# Altium integrated library Microchip Microcontroller 8-Bit PIC14.IntLib: 16 symbols
Pins are listed as number, name and electrical type; pins without a type are passive.

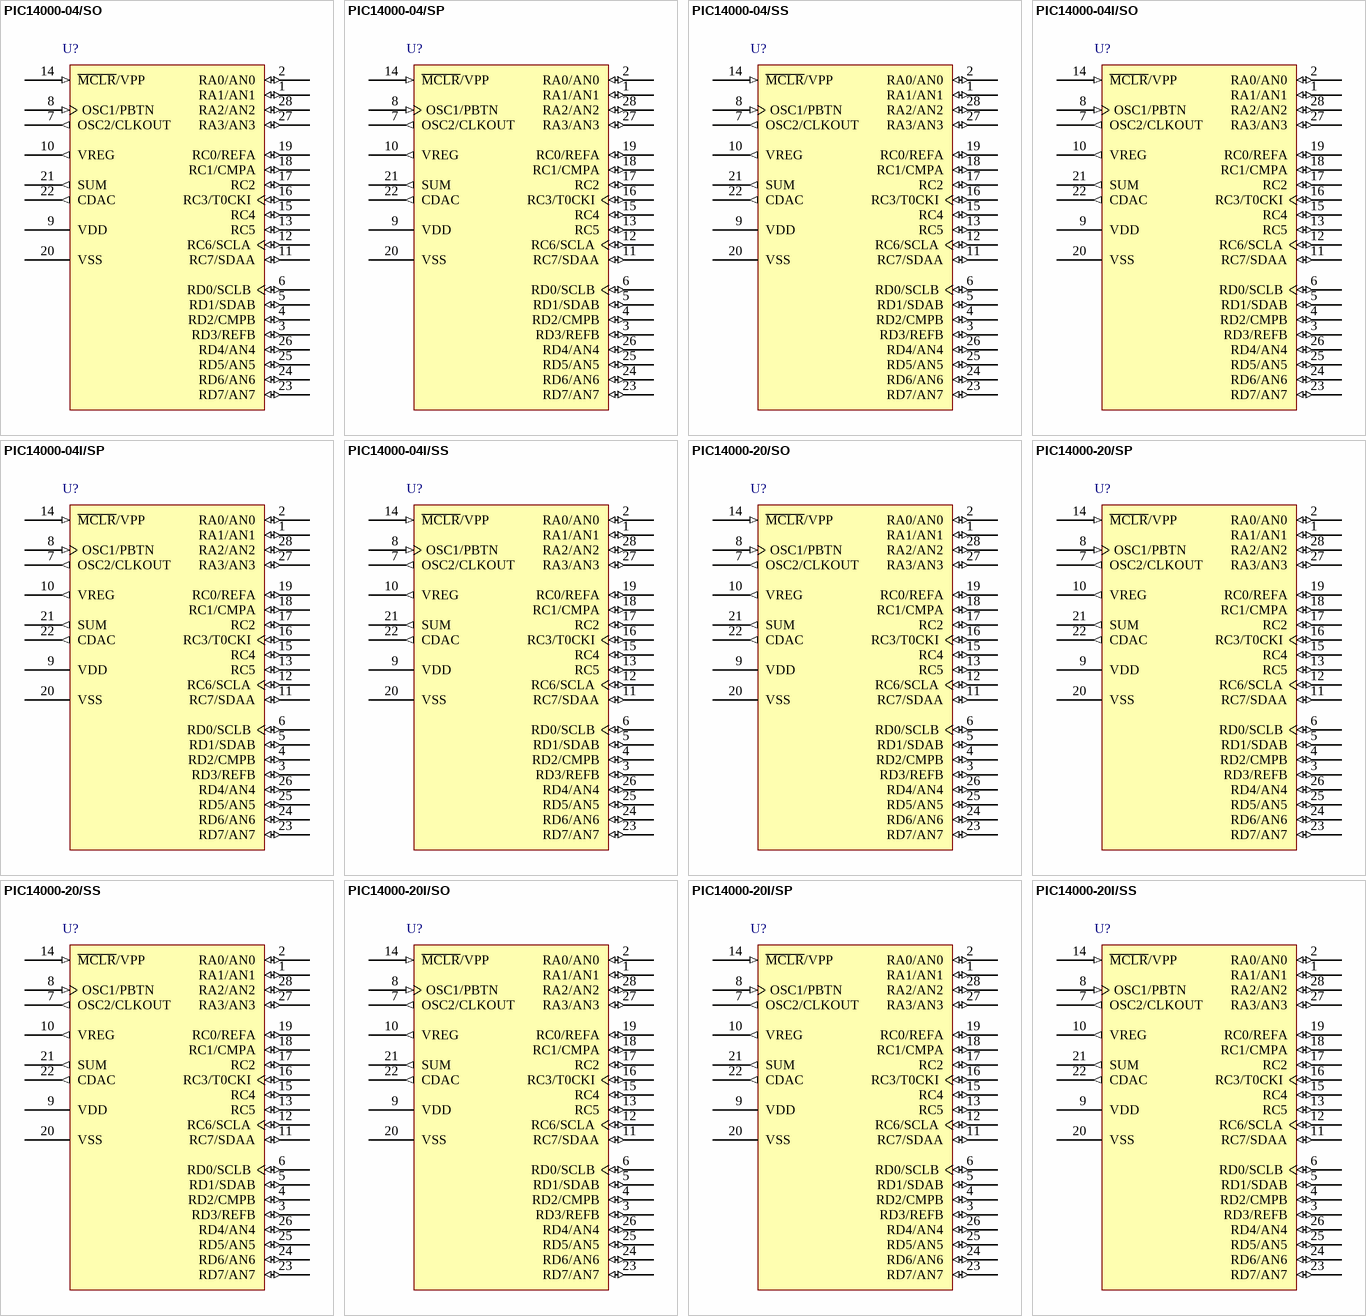
[diagram p0: symbols PIC14000-04/SO to PIC14000-20I/SS]

## PIC14000-04/SO
designator U?
Programmable OTP-Based 8-Bit Mixed Signal Microcontroller, 4 MHz, 28-Pin SOIC, Commercial Temperature; ComponentAvailability: Unknown. Contact manufacturer to determine status.; Published: 11-Oct-2004; LatestRevisionDate: 29-Jan-2009; LatestRevisionNote: Sch. layout revised. 3D Model Removed.; DatasheetVersion: revB, Feb-2003; PackageVersion: revBB, Aug-2009; PackageReference: SOIC-SO28; Publisher: Altium Limited; PackageDescription: 28-Lead Plastic Small Outline (SO) - Wide 7.50mm Body [SOIC]; Supplier 1: Digi-Key; Supplier Part Number 1: PIC14000-04/SO-ND; Code_JEDEC: MS-013; ComponentLink1Description: Datasheet; ComponentLink1URL: http://ww1.microchip.com/downloads/en/DeviceDoc/40122b.pdf; ComponentLink2Description: Packaging Specification; ComponentLink2URL: http://www.microchip.com/stellent/groups/techpub_sg/documents/packagingspec/en012702.pdf; ComponentLink3Description: Microchip.com Home; ComponentLink3URL: http://www.microchip.com/
footprint SOIC-SO28_N (SOIC, 28-Leads, Body 17.9x7.5mm, Pitch 1.27mm, IPC Medium Density)
footprint SOIC-SO28_L (SOIC, 28-Leads, Body 17.9x7.5mm, Pitch 1.27mm, IPC High Density)
footprint SOIC-SO28_M (SOIC, 28-Leads, Body 17.9x7.5mm, Pitch 1.27mm, IPC Low Density)
pins: 1 RA1/AN1 (io), 2 RA0/AN0 (io), 3 RD3/REFB (io), 4 RD2/CMPB (io), 5 RD1/SDAB (io), 6 RD0/SCLB (io), 7 OSC2/CLKOUT (out), 8 OSC1/PBTN (in), 9 VDD (power), 10 VREG (out), 11 RC7/SDAA (io), 12 RC6/SCLA (io), 13 RC5 (io), 14 ~{MCLR}/VPP (in), 15 RC4 (io), 16 RC3/T0CKI (io), 17 RC2 (io), 18 RC1/CMPA (io), 19 RC0/REFA (io), 20 VSS (power), 21 SUM (out), 22 CDAC (out), 23 RD7/AN7 (io), 24 RD6/AN6 (io), 25 RD5/AN5 (io), 26 RD4/AN4 (io), 27 RA3/AN3 (io), 28 RA2/AN2 (io)

## PIC14000-04/SP
designator U?
Programmable OTP-Based 8-Bit Mixed Signal Microcontroller, 4 MHz, 28-Pin PDIP, Commercial Temperature; ComponentAvailability: Unknown. Contact manufacturer to determine status.; Published: 11-Oct-2004; LatestRevisionDate: 29-Jan-2009; LatestRevisionNote: Sch. layout revised. 3D Model Removed.; DatasheetVersion: revB, Feb-2003; PackageVersion: revBB, Aug-2009; PackageReference: SPDIP300-SP28; Publisher: Altium Limited; PackageDescription: 28-Lead Skinny Plastic Dual In-Line (SP) - 300 mil Body [SPDIP]; Supplier 1: Digi-Key; Supplier Part Number 1: PIC14000-04/SP-ND; Supplier 2: Farnell; Supplier Part Number 2: 9759069; ComponentLink1Description: Datasheet; ComponentLink1URL: http://ww1.microchip.com/downloads/en/DeviceDoc/40122b.pdf; ComponentLink2Description: Packaging Specification; ComponentLink2URL: http://www.microchip.com/stellent/groups/techpub_sg/documents/packagingspec/en012702.pdf; ComponentLink3Description: Microchip.com Home; ComponentLink3URL: http://www.microchip.com/
footprint SPDIP300-SP28 (DIP, 28-Leads, Row Spacing 7.62mm, Pitch 2.54mm, Body 34.9x6.8mm)
pins: 1 RA1/AN1 (io), 2 RA0/AN0 (io), 3 RD3/REFB (io), 4 RD2/CMPB (io), 5 RD1/SDAB (io), 6 RD0/SCLB (io), 7 OSC2/CLKOUT (out), 8 OSC1/PBTN (in), 9 VDD (power), 10 VREG (out), 11 RC7/SDAA (io), 12 RC6/SCLA (io), 13 RC5 (io), 14 ~{MCLR}/VPP (in), 15 RC4 (io), 16 RC3/T0CKI (io), 17 RC2 (io), 18 RC1/CMPA (io), 19 RC0/REFA (io), 20 VSS (power), 21 SUM (out), 22 CDAC (out), 23 RD7/AN7 (io), 24 RD6/AN6 (io), 25 RD5/AN5 (io), 26 RD4/AN4 (io), 27 RA3/AN3 (io), 28 RA2/AN2 (io)

## PIC14000-04/SS
designator U?
Programmable OTP-Based 8-Bit Mixed Signal Microcontroller, 4 MHz, 28-Pin SSOP, Commercial Temperature; ComponentAvailability: Unknown. Contact manufacturer to determine status.; Published: 11-Oct-2004; LatestRevisionDate: 29-Jan-2009; LatestRevisionNote: Sch. layout revised. 3D Model Removed.; DatasheetVersion: revB, Feb-2003; PackageVersion: revBB, Aug-2009; PackageReference: SSOP-SS28; Publisher: Altium Limited; PackageDescription: 28-Lead Plastic Shrink Small Outline (SS) - 5.3mm Body [SSOP]; Supplier 1: Digi-Key; Supplier Part Number 1: PIC14000-04/SS-ND; Code_JEDEC: MS-150; Code_IPC: SOP65P780-28; ComponentLink1Description: Datasheet; ComponentLink1URL: http://ww1.microchip.com/downloads/en/DeviceDoc/40122b.pdf; ComponentLink2Description: Packaging Specification; ComponentLink2URL: http://www.microchip.com/stellent/groups/techpub_sg/documents/packagingspec/en012702.pdf; ComponentLink3Description: Microchip.com Home; ComponentLink3URL: http://www.microchip.com/
footprint SSOP-SS28_N (SOP, 28-Leads, Body 10.2x5.2mm, Pitch 0.65mm, IPC Medium Density)
footprint SSOP-SS28_L (SOP, 28-Leads, Body 10.2x5.2mm, Pitch 0.65mm, IPC High Density)
footprint SSOP-SS28_M (SOP, 28-Leads, Body 10.2x5.2mm, Pitch 0.65mm, IPC Low Density)
pins: 1 RA1/AN1 (io), 2 RA0/AN0 (io), 3 RD3/REFB (io), 4 RD2/CMPB (io), 5 RD1/SDAB (io), 6 RD0/SCLB (io), 7 OSC2/CLKOUT (out), 8 OSC1/PBTN (in), 9 VDD (power), 10 VREG (out), 11 RC7/SDAA (io), 12 RC6/SCLA (io), 13 RC5 (io), 14 ~{MCLR}/VPP (in), 15 RC4 (io), 16 RC3/T0CKI (io), 17 RC2 (io), 18 RC1/CMPA (io), 19 RC0/REFA (io), 20 VSS (power), 21 SUM (out), 22 CDAC (out), 23 RD7/AN7 (io), 24 RD6/AN6 (io), 25 RD5/AN5 (io), 26 RD4/AN4 (io), 27 RA3/AN3 (io), 28 RA2/AN2 (io)

## PIC14000-04I/SO
designator U?
Programmable OTP-Based 8-Bit Mixed Signal Microcontroller, 4 MHz, 28-Pin SOIC, Industrial Temperature; ComponentAvailability: Unknown. Contact manufacturer to determine status.; Published: 11-Oct-2004; LatestRevisionDate: 29-Jan-2009; LatestRevisionNote: Sch. layout revised. 3D Model Removed.; DatasheetVersion: revB, Feb-2003; PackageVersion: revBB, Aug-2009; PackageReference: SOIC-SO28; Publisher: Altium Limited; PackageDescription: 28-Lead Plastic Small Outline (SO) - Wide 7.50mm Body [SOIC]; Supplier 1: Digi-Key; Supplier Part Number 1: PIC14000-04I/SO-ND; Code_JEDEC: MS-013; ComponentLink1Description: Datasheet; ComponentLink1URL: http://ww1.microchip.com/downloads/en/DeviceDoc/40122b.pdf; ComponentLink2Description: Packaging Specification; ComponentLink2URL: http://www.microchip.com/stellent/groups/techpub_sg/documents/packagingspec/en012702.pdf; ComponentLink3Description: Microchip.com Home; ComponentLink3URL: http://www.microchip.com/
footprint SOIC-SO28_N (SOIC, 28-Leads, Body 17.9x7.5mm, Pitch 1.27mm, IPC Medium Density)
footprint SOIC-SO28_L (SOIC, 28-Leads, Body 17.9x7.5mm, Pitch 1.27mm, IPC High Density)
footprint SOIC-SO28_M (SOIC, 28-Leads, Body 17.9x7.5mm, Pitch 1.27mm, IPC Low Density)
pins: 1 RA1/AN1 (io), 2 RA0/AN0 (io), 3 RD3/REFB (io), 4 RD2/CMPB (io), 5 RD1/SDAB (io), 6 RD0/SCLB (io), 7 OSC2/CLKOUT (out), 8 OSC1/PBTN (in), 9 VDD (power), 10 VREG (out), 11 RC7/SDAA (io), 12 RC6/SCLA (io), 13 RC5 (io), 14 ~{MCLR}/VPP (in), 15 RC4 (io), 16 RC3/T0CKI (io), 17 RC2 (io), 18 RC1/CMPA (io), 19 RC0/REFA (io), 20 VSS (power), 21 SUM (out), 22 CDAC (out), 23 RD7/AN7 (io), 24 RD6/AN6 (io), 25 RD5/AN5 (io), 26 RD4/AN4 (io), 27 RA3/AN3 (io), 28 RA2/AN2 (io)

## PIC14000-04I/SP
designator U?
Programmable OTP-Based 8-Bit Mixed Signal Microcontroller, 4 MHz, 28-Pin PDIP, Industrial Temperature; ComponentAvailability: Unknown. Contact manufacturer to determine status.; Published: 11-Oct-2004; LatestRevisionDate: 29-Jan-2009; LatestRevisionNote: Sch. layout revised. 3D Model Removed.; DatasheetVersion: revB, Feb-2003; PackageVersion: revBB, Aug-2009; PackageReference: SPDIP300-SP28; Publisher: Altium Limited; PackageDescription: 28-Lead Skinny Plastic Dual In-Line (SP) - 300 mil Body [SPDIP]; Supplier 1: Digi-Key; Supplier Part Number 1: PIC14000-04I/SP-ND; ComponentLink1Description: Datasheet; ComponentLink1URL: http://ww1.microchip.com/downloads/en/DeviceDoc/40122b.pdf; ComponentLink2Description: Packaging Specification; ComponentLink2URL: http://www.microchip.com/stellent/groups/techpub_sg/documents/packagingspec/en012702.pdf; ComponentLink3Description: Microchip.com Home; ComponentLink3URL: http://www.microchip.com/
footprint SPDIP300-SP28 (DIP, 28-Leads, Row Spacing 7.62mm, Pitch 2.54mm, Body 34.9x6.8mm)
pins: 1 RA1/AN1 (io), 2 RA0/AN0 (io), 3 RD3/REFB (io), 4 RD2/CMPB (io), 5 RD1/SDAB (io), 6 RD0/SCLB (io), 7 OSC2/CLKOUT (out), 8 OSC1/PBTN (in), 9 VDD (power), 10 VREG (out), 11 RC7/SDAA (io), 12 RC6/SCLA (io), 13 RC5 (io), 14 ~{MCLR}/VPP (in), 15 RC4 (io), 16 RC3/T0CKI (io), 17 RC2 (io), 18 RC1/CMPA (io), 19 RC0/REFA (io), 20 VSS (power), 21 SUM (out), 22 CDAC (out), 23 RD7/AN7 (io), 24 RD6/AN6 (io), 25 RD5/AN5 (io), 26 RD4/AN4 (io), 27 RA3/AN3 (io), 28 RA2/AN2 (io)

## PIC14000-04I/SS
designator U?
Programmable OTP-Based 8-Bit Mixed Signal Microcontroller, 4 MHz, 28-Pin SSOP, Industrial Temperature; ComponentAvailability: Unknown. Contact manufacturer to determine status.; Published: 11-Oct-2004; LatestRevisionDate: 29-Jan-2009; LatestRevisionNote: Sch. layout revised. 3D Model Removed.; DatasheetVersion: revB, Feb-2003; PackageVersion: revBB, Aug-2009; PackageReference: SSOP-SS28; Publisher: Altium Limited; PackageDescription: 28-Lead Plastic Shrink Small Outline (SS) - 5.3mm Body [SSOP]; Code_JEDEC: MS-150; Code_IPC: SOP65P780-28; ComponentLink1Description: Datasheet; ComponentLink1URL: http://ww1.microchip.com/downloads/en/DeviceDoc/40122b.pdf; ComponentLink2Description: Packaging Specification; ComponentLink2URL: http://www.microchip.com/stellent/groups/techpub_sg/documents/packagingspec/en012702.pdf; ComponentLink3Description: Microchip.com Home; ComponentLink3URL: http://www.microchip.com/
footprint SSOP-SS28_N (SOP, 28-Leads, Body 10.2x5.2mm, Pitch 0.65mm, IPC Medium Density)
footprint SSOP-SS28_L (SOP, 28-Leads, Body 10.2x5.2mm, Pitch 0.65mm, IPC High Density)
footprint SSOP-SS28_M (SOP, 28-Leads, Body 10.2x5.2mm, Pitch 0.65mm, IPC Low Density)
pins: 1 RA1/AN1 (io), 2 RA0/AN0 (io), 3 RD3/REFB (io), 4 RD2/CMPB (io), 5 RD1/SDAB (io), 6 RD0/SCLB (io), 7 OSC2/CLKOUT (out), 8 OSC1/PBTN (in), 9 VDD (power), 10 VREG (out), 11 RC7/SDAA (io), 12 RC6/SCLA (io), 13 RC5 (io), 14 ~{MCLR}/VPP (in), 15 RC4 (io), 16 RC3/T0CKI (io), 17 RC2 (io), 18 RC1/CMPA (io), 19 RC0/REFA (io), 20 VSS (power), 21 SUM (out), 22 CDAC (out), 23 RD7/AN7 (io), 24 RD6/AN6 (io), 25 RD5/AN5 (io), 26 RD4/AN4 (io), 27 RA3/AN3 (io), 28 RA2/AN2 (io)

## PIC14000-20/SO
designator U?
Programmable OTP-Based 8-Bit Mixed Signal Microcontroller, 20 MHz, 28-Pin SOIC, Commercial Temperature; ComponentAvailability: Unknown. Contact manufacturer to determine status.; Published: 11-Oct-2004; LatestRevisionDate: 29-Jan-2009; LatestRevisionNote: Sch. layout revised. 3D Model Removed.; DatasheetVersion: revB, Feb-2003; PackageVersion: revBB, Aug-2009; PackageReference: SOIC-SO28; Publisher: Altium Limited; PackageDescription: 28-Lead Plastic Small Outline (SO) - Wide 7.50mm Body [SOIC]; Supplier 1: Digi-Key; Supplier Part Number 1: PIC14000-20/SO-ND; Code_JEDEC: MS-013; ComponentLink1Description: Datasheet; ComponentLink1URL: http://ww1.microchip.com/downloads/en/DeviceDoc/40122b.pdf; ComponentLink2Description: Packaging Specification; ComponentLink2URL: http://www.microchip.com/stellent/groups/techpub_sg/documents/packagingspec/en012702.pdf; ComponentLink3Description: Microchip.com Home; ComponentLink3URL: http://www.microchip.com/
footprint SOIC-SO28_N (SOIC, 28-Leads, Body 17.9x7.5mm, Pitch 1.27mm, IPC Medium Density)
footprint SOIC-SO28_L (SOIC, 28-Leads, Body 17.9x7.5mm, Pitch 1.27mm, IPC High Density)
footprint SOIC-SO28_M (SOIC, 28-Leads, Body 17.9x7.5mm, Pitch 1.27mm, IPC Low Density)
pins: 1 RA1/AN1 (io), 2 RA0/AN0 (io), 3 RD3/REFB (io), 4 RD2/CMPB (io), 5 RD1/SDAB (io), 6 RD0/SCLB (io), 7 OSC2/CLKOUT (out), 8 OSC1/PBTN (in), 9 VDD (power), 10 VREG (out), 11 RC7/SDAA (io), 12 RC6/SCLA (io), 13 RC5 (io), 14 ~{MCLR}/VPP (in), 15 RC4 (io), 16 RC3/T0CKI (io), 17 RC2 (io), 18 RC1/CMPA (io), 19 RC0/REFA (io), 20 VSS (power), 21 SUM (out), 22 CDAC (out), 23 RD7/AN7 (io), 24 RD6/AN6 (io), 25 RD5/AN5 (io), 26 RD4/AN4 (io), 27 RA3/AN3 (io), 28 RA2/AN2 (io)

## PIC14000-20/SP
designator U?
Programmable OTP-Based 8-Bit Mixed Signal Microcontroller, 20 MHz, 28-Pin PDIP, Commercial Temperature; ComponentAvailability: Unknown. Contact manufacturer to determine status.; Published: 11-Oct-2004; LatestRevisionDate: 29-Jan-2009; LatestRevisionNote: Sch. layout revised. 3D Model Removed.; DatasheetVersion: revB, Feb-2003; PackageVersion: revBB, Aug-2009; PackageReference: SPDIP300-SP28; Publisher: Altium Limited; PackageDescription: 28-Lead Skinny Plastic Dual In-Line (SP) - 300 mil Body [SPDIP]; Supplier 1: Digi-Key; Supplier Part Number 1: PIC14000-20/SP-ND; Supplier 2: Farnell; Supplier Part Number 2: 1133138; ComponentLink1Description: Datasheet; ComponentLink1URL: http://ww1.microchip.com/downloads/en/DeviceDoc/40122b.pdf; ComponentLink2Description: Packaging Specification; ComponentLink2URL: http://www.microchip.com/stellent/groups/techpub_sg/documents/packagingspec/en012702.pdf; ComponentLink3Description: Microchip.com Home; ComponentLink3URL: http://www.microchip.com/
footprint SPDIP300-SP28 (DIP, 28-Leads, Row Spacing 7.62mm, Pitch 2.54mm, Body 34.9x6.8mm)
pins: 1 RA1/AN1 (io), 2 RA0/AN0 (io), 3 RD3/REFB (io), 4 RD2/CMPB (io), 5 RD1/SDAB (io), 6 RD0/SCLB (io), 7 OSC2/CLKOUT (out), 8 OSC1/PBTN (in), 9 VDD (power), 10 VREG (out), 11 RC7/SDAA (io), 12 RC6/SCLA (io), 13 RC5 (io), 14 ~{MCLR}/VPP (in), 15 RC4 (io), 16 RC3/T0CKI (io), 17 RC2 (io), 18 RC1/CMPA (io), 19 RC0/REFA (io), 20 VSS (power), 21 SUM (out), 22 CDAC (out), 23 RD7/AN7 (io), 24 RD6/AN6 (io), 25 RD5/AN5 (io), 26 RD4/AN4 (io), 27 RA3/AN3 (io), 28 RA2/AN2 (io)

## PIC14000-20/SS
designator U?
Programmable OTP-Based 8-Bit Mixed Signal Microcontroller, 20 MHz, 28-Pin SSOP, Commercial Temperature; ComponentAvailability: Unknown. Contact manufacturer to determine status.; Published: 11-Oct-2004; LatestRevisionDate: 29-Jan-2009; LatestRevisionNote: Sch. layout revised. 3D Model Removed.; DatasheetVersion: revB, Feb-2003; PackageVersion: revBB, Aug-2009; PackageReference: SSOP-SS28; Publisher: Altium Limited; PackageDescription: 28-Lead Plastic Shrink Small Outline (SS) - 5.3mm Body [SSOP]; Supplier 1: Digi-Key; Supplier Part Number 1: PIC14000-20/SS-ND; Code_JEDEC: MS-150; Code_IPC: SOP65P780-28; ComponentLink1Description: Datasheet; ComponentLink1URL: http://ww1.microchip.com/downloads/en/DeviceDoc/40122b.pdf; ComponentLink2Description: Packaging Specification; ComponentLink2URL: http://www.microchip.com/stellent/groups/techpub_sg/documents/packagingspec/en012702.pdf; ComponentLink3Description: Microchip.com Home; ComponentLink3URL: http://www.microchip.com/
footprint SSOP-SS28_N (SOP, 28-Leads, Body 10.2x5.2mm, Pitch 0.65mm, IPC Medium Density)
footprint SSOP-SS28_L (SOP, 28-Leads, Body 10.2x5.2mm, Pitch 0.65mm, IPC High Density)
footprint SSOP-SS28_M (SOP, 28-Leads, Body 10.2x5.2mm, Pitch 0.65mm, IPC Low Density)
pins: 1 RA1/AN1 (io), 2 RA0/AN0 (io), 3 RD3/REFB (io), 4 RD2/CMPB (io), 5 RD1/SDAB (io), 6 RD0/SCLB (io), 7 OSC2/CLKOUT (out), 8 OSC1/PBTN (in), 9 VDD (power), 10 VREG (out), 11 RC7/SDAA (io), 12 RC6/SCLA (io), 13 RC5 (io), 14 ~{MCLR}/VPP (in), 15 RC4 (io), 16 RC3/T0CKI (io), 17 RC2 (io), 18 RC1/CMPA (io), 19 RC0/REFA (io), 20 VSS (power), 21 SUM (out), 22 CDAC (out), 23 RD7/AN7 (io), 24 RD6/AN6 (io), 25 RD5/AN5 (io), 26 RD4/AN4 (io), 27 RA3/AN3 (io), 28 RA2/AN2 (io)

## PIC14000-20I/SO
designator U?
Programmable OTP-Based 8-Bit Mixed Signal Microcontroller, 20 MHz, 28-Pin SOIC, Industrial Temperature; ComponentAvailability: Unknown. Contact manufacturer to determine status.; Published: 11-Oct-2004; LatestRevisionDate: 29-Jan-2009; LatestRevisionNote: Sch. layout revised. 3D Model Removed.; DatasheetVersion: revB, Feb-2003; PackageVersion: revBB, Aug-2009; PackageReference: SOIC-SO28; Publisher: Altium Limited; PackageDescription: 28-Lead Plastic Small Outline (SO) - Wide 7.50mm Body [SOIC]; Supplier 1: Digi-Key; Supplier Part Number 1: PIC14000-20I/SO-ND; Code_JEDEC: MS-013; ComponentLink1Description: Datasheet; ComponentLink1URL: http://ww1.microchip.com/downloads/en/DeviceDoc/40122b.pdf; ComponentLink2Description: Packaging Specification; ComponentLink2URL: http://www.microchip.com/stellent/groups/techpub_sg/documents/packagingspec/en012702.pdf; ComponentLink3Description: Microchip.com Home; ComponentLink3URL: http://www.microchip.com/
footprint SOIC-SO28_N (SOIC, 28-Leads, Body 17.9x7.5mm, Pitch 1.27mm, IPC Medium Density)
footprint SOIC-SO28_L (SOIC, 28-Leads, Body 17.9x7.5mm, Pitch 1.27mm, IPC High Density)
footprint SOIC-SO28_M (SOIC, 28-Leads, Body 17.9x7.5mm, Pitch 1.27mm, IPC Low Density)
pins: 1 RA1/AN1 (io), 2 RA0/AN0 (io), 3 RD3/REFB (io), 4 RD2/CMPB (io), 5 RD1/SDAB (io), 6 RD0/SCLB (io), 7 OSC2/CLKOUT (out), 8 OSC1/PBTN (in), 9 VDD (power), 10 VREG (out), 11 RC7/SDAA (io), 12 RC6/SCLA (io), 13 RC5 (io), 14 ~{MCLR}/VPP (in), 15 RC4 (io), 16 RC3/T0CKI (io), 17 RC2 (io), 18 RC1/CMPA (io), 19 RC0/REFA (io), 20 VSS (power), 21 SUM (out), 22 CDAC (out), 23 RD7/AN7 (io), 24 RD6/AN6 (io), 25 RD5/AN5 (io), 26 RD4/AN4 (io), 27 RA3/AN3 (io), 28 RA2/AN2 (io)

## PIC14000-20I/SP
designator U?
Programmable OTP-Based 8-Bit Mixed Signal Microcontroller, 20 MHz, 28-Pin PDIP, Industrial Temperature; ComponentAvailability: Unknown. Contact manufacturer to determine status.; Published: 11-Oct-2004; LatestRevisionDate: 29-Jan-2009; LatestRevisionNote: Sch. layout revised. 3D Model Removed.; DatasheetVersion: revB, Feb-2003; PackageVersion: revBB, Aug-2009; PackageReference: SPDIP300-SP28; Publisher: Altium Limited; PackageDescription: 28-Lead Skinny Plastic Dual In-Line (SP) - 300 mil Body [SPDIP]; Supplier 1: Digi-Key; Supplier Part Number 1: PIC14000-20I/SP-ND; ComponentLink1Description: Datasheet; ComponentLink1URL: http://ww1.microchip.com/downloads/en/DeviceDoc/40122b.pdf; ComponentLink2Description: Packaging Specification; ComponentLink2URL: http://www.microchip.com/stellent/groups/techpub_sg/documents/packagingspec/en012702.pdf; ComponentLink3Description: Microchip.com Home; ComponentLink3URL: http://www.microchip.com/
footprint SPDIP300-SP28 (DIP, 28-Leads, Row Spacing 7.62mm, Pitch 2.54mm, Body 34.9x6.8mm)
pins: 1 RA1/AN1 (io), 2 RA0/AN0 (io), 3 RD3/REFB (io), 4 RD2/CMPB (io), 5 RD1/SDAB (io), 6 RD0/SCLB (io), 7 OSC2/CLKOUT (out), 8 OSC1/PBTN (in), 9 VDD (power), 10 VREG (out), 11 RC7/SDAA (io), 12 RC6/SCLA (io), 13 RC5 (io), 14 ~{MCLR}/VPP (in), 15 RC4 (io), 16 RC3/T0CKI (io), 17 RC2 (io), 18 RC1/CMPA (io), 19 RC0/REFA (io), 20 VSS (power), 21 SUM (out), 22 CDAC (out), 23 RD7/AN7 (io), 24 RD6/AN6 (io), 25 RD5/AN5 (io), 26 RD4/AN4 (io), 27 RA3/AN3 (io), 28 RA2/AN2 (io)

## PIC14000-20I/SS
designator U?
Programmable OTP-Based 8-Bit Mixed Signal Microcontroller, 20 MHz, 28-Pin SSOP, Industrial Temperature; ComponentAvailability: Unknown. Contact manufacturer to determine status.; Published: 11-Oct-2004; LatestRevisionDate: 29-Jan-2009; LatestRevisionNote: Sch. layout revised. 3D Model Removed.; DatasheetVersion: revB, Feb-2003; PackageVersion: revBB, Aug-2009; PackageReference: SSOP-SS28; Publisher: Altium Limited; PackageDescription: 28-Lead Plastic Shrink Small Outline (SS) - 5.3mm Body [SSOP]; Supplier 1: Digi-Key; Supplier Part Number 1: PIC14000-20I/SS-ND; Code_JEDEC: MS-150; Code_IPC: SOP65P780-28; ComponentLink1Description: Datasheet; ComponentLink1URL: http://ww1.microchip.com/downloads/en/DeviceDoc/40122b.pdf; ComponentLink2Description: Packaging Specification; ComponentLink2URL: http://www.microchip.com/stellent/groups/techpub_sg/documents/packagingspec/en012702.pdf; ComponentLink3Description: Microchip.com Home; ComponentLink3URL: http://www.microchip.com/
footprint SSOP-SS28_N (SOP, 28-Leads, Body 10.2x5.2mm, Pitch 0.65mm, IPC Medium Density)
footprint SSOP-SS28_L (SOP, 28-Leads, Body 10.2x5.2mm, Pitch 0.65mm, IPC High Density)
footprint SSOP-SS28_M (SOP, 28-Leads, Body 10.2x5.2mm, Pitch 0.65mm, IPC Low Density)
pins: 1 RA1/AN1 (io), 2 RA0/AN0 (io), 3 RD3/REFB (io), 4 RD2/CMPB (io), 5 RD1/SDAB (io), 6 RD0/SCLB (io), 7 OSC2/CLKOUT (out), 8 OSC1/PBTN (in), 9 VDD (power), 10 VREG (out), 11 RC7/SDAA (io), 12 RC6/SCLA (io), 13 RC5 (io), 14 ~{MCLR}/VPP (in), 15 RC4 (io), 16 RC3/T0CKI (io), 17 RC2 (io), 18 RC1/CMPA (io), 19 RC0/REFA (io), 20 VSS (power), 21 SUM (out), 22 CDAC (out), 23 RD7/AN7 (io), 24 RD6/AN6 (io), 25 RD5/AN5 (io), 26 RD4/AN4 (io), 27 RA3/AN3 (io), 28 RA2/AN2 (io)

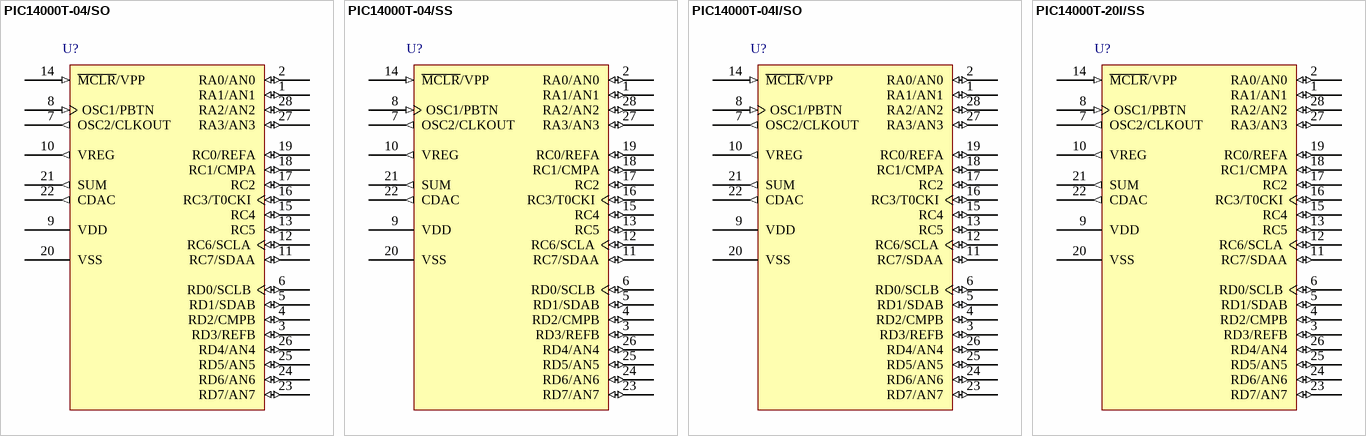
[diagram p1: symbols PIC14000T-04/SO to PIC14000T-20I/SS]

## PIC14000T-04/SO
designator U?
Programmable OTP-Based 8-Bit Mixed Signal Microcontroller, 4 MHz, 28-Pin SOIC, Commercial Temperature, Tape and Reel; ComponentAvailability: Unknown. Contact manufacturer to determine status.; Published: 11-Oct-2004; LatestRevisionDate: 29-Jan-2009; LatestRevisionNote: Sch. layout revised. 3D Model Removed.; DatasheetVersion: revB, Feb-2003; PackageVersion: revBB, Aug-2009; PackageReference: SOIC-SO28; Publisher: Altium Limited; PackageDescription: 28-Lead Plastic Small Outline (SO) - Wide 7.50mm Body [SOIC]; Supplier 1: Digi-Key; Supplier Part Number 1: PIC14000T-04/SO-ND; Code_JEDEC: MS-013; ComponentLink1Description: Datasheet; ComponentLink1URL: http://ww1.microchip.com/downloads/en/DeviceDoc/40122b.pdf; ComponentLink2Description: Packaging Specification; ComponentLink2URL: http://www.microchip.com/stellent/groups/techpub_sg/documents/packagingspec/en012702.pdf; ComponentLink3Description: Microchip.com Home; ComponentLink3URL: http://www.microchip.com/
footprint SOIC-SO28_N (SOIC, 28-Leads, Body 17.9x7.5mm, Pitch 1.27mm, IPC Medium Density)
footprint SOIC-SO28_L (SOIC, 28-Leads, Body 17.9x7.5mm, Pitch 1.27mm, IPC High Density)
footprint SOIC-SO28_M (SOIC, 28-Leads, Body 17.9x7.5mm, Pitch 1.27mm, IPC Low Density)
pins: 1 RA1/AN1 (io), 2 RA0/AN0 (io), 3 RD3/REFB (io), 4 RD2/CMPB (io), 5 RD1/SDAB (io), 6 RD0/SCLB (io), 7 OSC2/CLKOUT (out), 8 OSC1/PBTN (in), 9 VDD (power), 10 VREG (out), 11 RC7/SDAA (io), 12 RC6/SCLA (io), 13 RC5 (io), 14 ~{MCLR}/VPP (in), 15 RC4 (io), 16 RC3/T0CKI (io), 17 RC2 (io), 18 RC1/CMPA (io), 19 RC0/REFA (io), 20 VSS (power), 21 SUM (out), 22 CDAC (out), 23 RD7/AN7 (io), 24 RD6/AN6 (io), 25 RD5/AN5 (io), 26 RD4/AN4 (io), 27 RA3/AN3 (io), 28 RA2/AN2 (io)

## PIC14000T-04/SS
designator U?
Programmable OTP-Based 8-Bit Mixed Signal Microcontroller, 4 MHz, 28-Pin SSOP, Commercial Temperature, Tape and Reel; ComponentAvailability: Unknown. Contact manufacturer to determine status.; Published: 11-Oct-2004; LatestRevisionDate: 29-Jan-2009; LatestRevisionNote: Sch. layout revised. 3D Model Removed.; DatasheetVersion: revB, Feb-2003; PackageVersion: revBB, Aug-2009; PackageReference: SSOP-SS28; Publisher: Altium Limited; PackageDescription: 28-Lead Plastic Shrink Small Outline (SS) - 5.3mm Body [SSOP]; Supplier 1: Digi-Key; Supplier Part Number 1: PIC14000T-04/SS-ND; Code_JEDEC: MS-150; Code_IPC: SOP65P780-28; ComponentLink1Description: Datasheet; ComponentLink1URL: http://ww1.microchip.com/downloads/en/DeviceDoc/40122b.pdf; ComponentLink2Description: Packaging Specification; ComponentLink2URL: http://www.microchip.com/stellent/groups/techpub_sg/documents/packagingspec/en012702.pdf; ComponentLink3Description: Microchip.com Home; ComponentLink3URL: http://www.microchip.com/
footprint SSOP-SS28_N (SOP, 28-Leads, Body 10.2x5.2mm, Pitch 0.65mm, IPC Medium Density)
footprint SSOP-SS28_L (SOP, 28-Leads, Body 10.2x5.2mm, Pitch 0.65mm, IPC High Density)
footprint SSOP-SS28_M (SOP, 28-Leads, Body 10.2x5.2mm, Pitch 0.65mm, IPC Low Density)
pins: 1 RA1/AN1 (io), 2 RA0/AN0 (io), 3 RD3/REFB (io), 4 RD2/CMPB (io), 5 RD1/SDAB (io), 6 RD0/SCLB (io), 7 OSC2/CLKOUT (out), 8 OSC1/PBTN (in), 9 VDD (power), 10 VREG (out), 11 RC7/SDAA (io), 12 RC6/SCLA (io), 13 RC5 (io), 14 ~{MCLR}/VPP (in), 15 RC4 (io), 16 RC3/T0CKI (io), 17 RC2 (io), 18 RC1/CMPA (io), 19 RC0/REFA (io), 20 VSS (power), 21 SUM (out), 22 CDAC (out), 23 RD7/AN7 (io), 24 RD6/AN6 (io), 25 RD5/AN5 (io), 26 RD4/AN4 (io), 27 RA3/AN3 (io), 28 RA2/AN2 (io)

## PIC14000T-04I/SO
designator U?
Programmable OTP-Based 8-Bit Mixed Signal Microcontroller, 4 MHz, 28-Pin SOIC, Industrial Temperature, Tape and Reel; ComponentAvailability: Unknown. Contact manufacturer to determine status.; Published: 11-Oct-2004; LatestRevisionDate: 29-Jan-2009; LatestRevisionNote: Sch. layout revised. 3D Model Removed.; DatasheetVersion: revB, Feb-2003; PackageVersion: revBB, Aug-2009; PackageReference: SOIC-SO28; Publisher: Altium Limited; PackageDescription: 28-Lead Plastic Small Outline (SO) - Wide 7.50mm Body [SOIC]; Supplier 1: Digi-Key; Supplier Part Number 1: PIC14000T-04I/SO-ND; Code_JEDEC: MS-013; ComponentLink1Description: Datasheet; ComponentLink1URL: http://ww1.microchip.com/downloads/en/DeviceDoc/40122b.pdf; ComponentLink2Description: Packaging Specification; ComponentLink2URL: http://www.microchip.com/stellent/groups/techpub_sg/documents/packagingspec/en012702.pdf; ComponentLink3Description: Microchip.com Home; ComponentLink3URL: http://www.microchip.com/
footprint SOIC-SO28_N (SOIC, 28-Leads, Body 17.9x7.5mm, Pitch 1.27mm, IPC Medium Density)
footprint SOIC-SO28_L (SOIC, 28-Leads, Body 17.9x7.5mm, Pitch 1.27mm, IPC High Density)
footprint SOIC-SO28_M (SOIC, 28-Leads, Body 17.9x7.5mm, Pitch 1.27mm, IPC Low Density)
pins: 1 RA1/AN1 (io), 2 RA0/AN0 (io), 3 RD3/REFB (io), 4 RD2/CMPB (io), 5 RD1/SDAB (io), 6 RD0/SCLB (io), 7 OSC2/CLKOUT (out), 8 OSC1/PBTN (in), 9 VDD (power), 10 VREG (out), 11 RC7/SDAA (io), 12 RC6/SCLA (io), 13 RC5 (io), 14 ~{MCLR}/VPP (in), 15 RC4 (io), 16 RC3/T0CKI (io), 17 RC2 (io), 18 RC1/CMPA (io), 19 RC0/REFA (io), 20 VSS (power), 21 SUM (out), 22 CDAC (out), 23 RD7/AN7 (io), 24 RD6/AN6 (io), 25 RD5/AN5 (io), 26 RD4/AN4 (io), 27 RA3/AN3 (io), 28 RA2/AN2 (io)

## PIC14000T-20I/SS
designator U?
Programmable OTP-Based 8-Bit Mixed Signal Microcontroller, 20 MHz, 28-Pin SSOP, Industrial Temperature, Tape and Reel; ComponentAvailability: Unknown. Contact manufacturer to determine status.; Published: 11-Oct-2004; LatestRevisionDate: 29-Jan-2009; LatestRevisionNote: Sch. layout revised. 3D Model Removed.; DatasheetVersion: revB, Feb-2003; PackageVersion: revBB, Aug-2009; PackageReference: SSOP-SS28; Publisher: Altium Limited; PackageDescription: 28-Lead Plastic Shrink Small Outline (SS) - 5.3mm Body [SSOP]; Supplier 1: Digi-Key; Supplier Part Number 1: PIC14000T-20I/SS-ND; Code_JEDEC: MS-150; Code_IPC: SOP65P780-28; ComponentLink1Description: Datasheet; ComponentLink1URL: http://ww1.microchip.com/downloads/en/DeviceDoc/40122b.pdf; ComponentLink2Description: Packaging Specification; ComponentLink2URL: http://www.microchip.com/stellent/groups/techpub_sg/documents/packagingspec/en012702.pdf; ComponentLink3Description: Microchip.com Home; ComponentLink3URL: http://www.microchip.com/
footprint SSOP-SS28_N (SOP, 28-Leads, Body 10.2x5.2mm, Pitch 0.65mm, IPC Medium Density)
footprint SSOP-SS28_L (SOP, 28-Leads, Body 10.2x5.2mm, Pitch 0.65mm, IPC High Density)
footprint SSOP-SS28_M (SOP, 28-Leads, Body 10.2x5.2mm, Pitch 0.65mm, IPC Low Density)
pins: 1 RA1/AN1 (io), 2 RA0/AN0 (io), 3 RD3/REFB (io), 4 RD2/CMPB (io), 5 RD1/SDAB (io), 6 RD0/SCLB (io), 7 OSC2/CLKOUT (out), 8 OSC1/PBTN (in), 9 VDD (power), 10 VREG (out), 11 RC7/SDAA (io), 12 RC6/SCLA (io), 13 RC5 (io), 14 ~{MCLR}/VPP (in), 15 RC4 (io), 16 RC3/T0CKI (io), 17 RC2 (io), 18 RC1/CMPA (io), 19 RC0/REFA (io), 20 VSS (power), 21 SUM (out), 22 CDAC (out), 23 RD7/AN7 (io), 24 RD6/AN6 (io), 25 RD5/AN5 (io), 26 RD4/AN4 (io), 27 RA3/AN3 (io), 28 RA2/AN2 (io)